# EAGLE library part AQ-CART-EDGE (library aquarius)
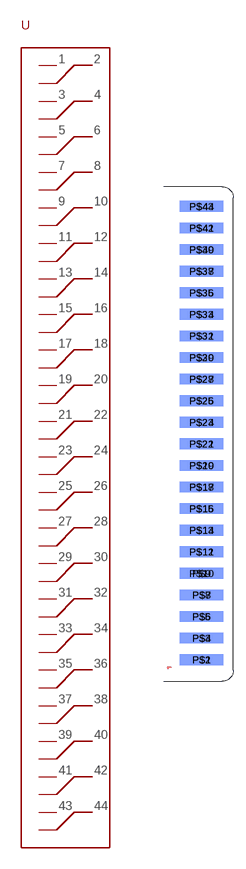
[diagram p5: symbol with the pads of AQ-CART-EDGE; footprint AQ-CART-EDGE]

Designator prefix -

## AQ-CART-EDGE  [AQ-CART-EDGE]
P$1  X1
P$2  X2
P$3  X3
P$4  X4
P$5  X5
P$6  X6
P$7  X7
P$8  X8
P$9  X9
P$10  X10
P$11  X11
P$12  X12
P$13  X13
P$14  X14
P$15  X15
P$16  X16
P$17  X17
P$18  X18
P$19  X19
P$20  X20
P$21  X21
P$22  X22
P$23  X23
P$24  X24
P$25  X25
P$26  X26
P$27  X27
P$28  X28
P$29  X29
P$30  X30
P$31  X31
P$32  X32
P$33  X33
P$34  X34
P$35  X35
P$36  X36
P$37  X37
P$38  X38
P$39  X39
P$40  X40
P$41  X41
P$42  X42
P$43  X43
P$44  X44

## Footprint AQ-CART-EDGE (pad centres in mm)
smd 5.08 x 1.27: P$1 -1.905,-26.67; P$3 -1.905,-24.13; P$5 -1.905,-21.59; P$7 -1.905,-19.05; P$9 -1.905,-16.51; P$11 -1.905,-13.97; P$13 -1.905,-11.43; P$15 -1.905,-8.89; P$17 -1.905,-6.35; P$19 -1.905,-3.81; P$21 -1.905,-1.27; P$23 -1.905,1.27; P$25 -1.905,3.81; P$27 -1.905,6.35; P$29 -1.905,8.89; P$31 -1.905,11.43; P$33 -1.905,13.97; P$35 -1.905,16.51; P$37 -1.905,19.05; P$39 -1.905,21.59; P$41 -1.905,24.13; P$43 -1.905,26.67
smd 5.08 x 1.27 bottom: P$2 -1.905,-26.67; P$4 -1.905,-24.13; P$6 -1.905,-21.59; P$8 -1.905,-19.05; P$10 -1.905,-16.51; P$12 -1.905,-13.97; P$14 -1.905,-11.43; P$16 -1.905,-8.89; P$18 -1.905,-6.35; P$20 -1.905,-3.81; P$22 -1.905,-1.27; P$24 -1.905,1.27; P$26 -1.905,3.81; P$28 -1.905,6.35; P$30 -1.905,8.89; P$32 -1.905,11.43; P$34 -1.905,13.97; P$36 -1.905,16.51; P$38 -1.905,19.05; P$40 -1.905,21.59; P$42 -1.905,24.13; P$44 -1.905,26.67